# Altium schematic symbol library Job.SchLib: 2 symbols
Pins are listed as number, name and electrical type; pins without a type are passive.

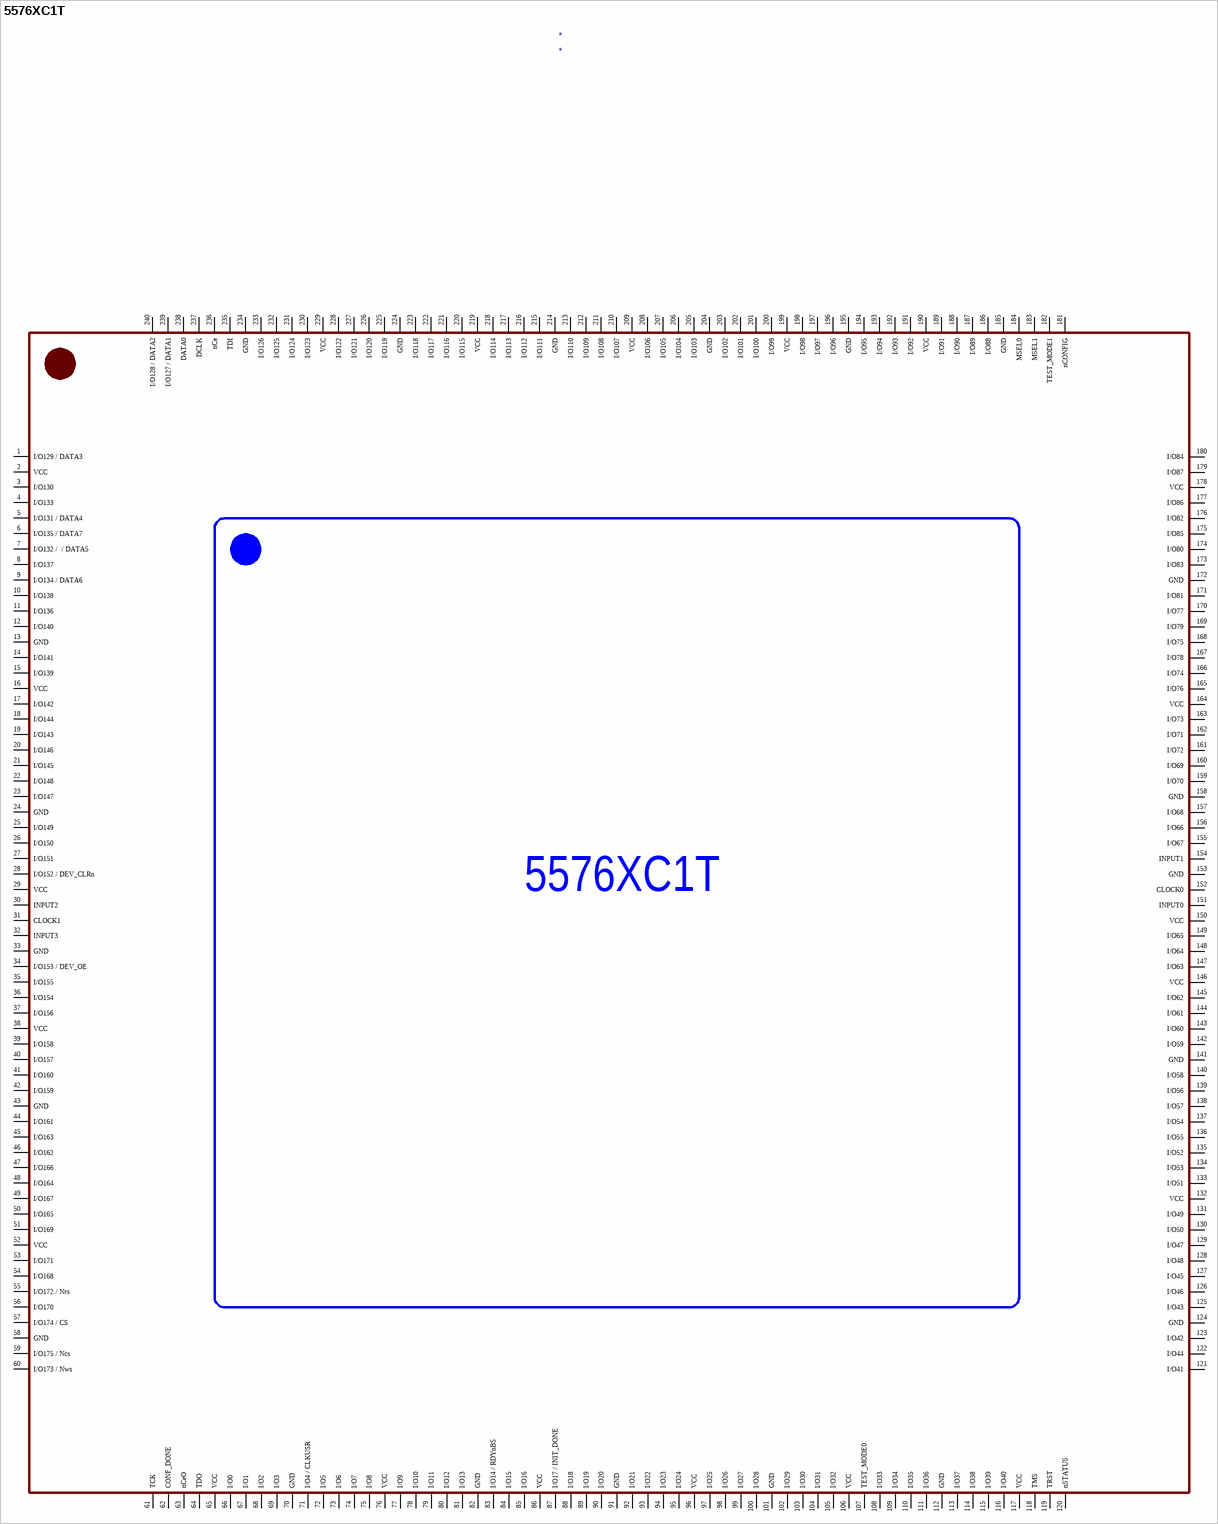
[diagram p0: symbol 5576XC1T]

## 5576XC1T
designator *
pins: 1 I/O129 / DATA3 (power), 2 VCC (power), 3 I/O130 (power), 4 I/O133 (power), 5 I/O131 / DATA4 (power), 6 I/O135 / DATA7 (power), 7 I/O132 /  / DATA5 (power), 8 I/O137 (power), 9 I/O134 / DATA6 (power), 10 I/O138 (power), 11 I/O136 (power), 12 I/O140 (power), 13 GND (power), 14 I/O141 (power), 15 I/O139 (power), 16 VCC (power), 17 I/O142 (power), 18 I/O144 (power), 19 I/O143 (power), 20 I/O146 (power), 21 I/O145 (power), 22 I/O148 (power), 23 I/O147 (power), 24 GND (power), 25 I/O149 (power), 26 I/O150 (power), 27 I/O151 (power), 28 I/O152 / DEV_CLRn (power), 29 VCC (power), 30 INPUT2 (power), 31 CLOCK1 (power), 32 INPUT3 (power), 33 GND (power), 34 I/O153 / DEV_OE (power), 35 I/O155 (power), 36 I/O154 (power), 37 I/O156 (power), 38 VCC (power), 39 I/O158 (power), 40 I/O157 (power), 41 I/O160 (power), 42 I/O159 (power), 43 GND (power), 44 I/O161 (power), 45 I/O163 (power), 46 I/O162 (power), 47 I/O166 (power), 48 I/O164 (power), 49 I/O167 (power), 50 I/O165 (power), 51 I/O169 (power), 52 VCC (power), 53 I/O171 (power), 54 I/O168 (power), 55 I/O172 / Nrs (power), 56 I/O170 (power), 57 I/O174 / CS (power), 58 GND (power), 59 I/O175 / Ncs (power), 60 I/O173 / Nws (power), 61 ТСК (power), 62 CONF_DONE (power), 63 nCeO (power), 64 TDO (power), 65 VCC (power), 66 I/O0 (power), 67 I/O1 (power), 68 I/O2 (power), 69 I/O3 (power), 70 GND (power), 71 I/O4 / CLKUSR (power), 72 I/O5 (power), 73 I/O6 (power), 74 I/O7 (power), 75 I/O8 (power), 76 VCC (power), 77 I/O9 (power), 78 I/O10 (power), 79 I/O11 (power), 80 I/O12 (power), 81 I/O13 (power), 82 GND (power), 83 I/O14 / RDYnBS (power), 84 I/O15 (power), 85 I/O16 (power), 86 VCC (power), 87 I/O17 / INIT_DONE (power), 88 I/O18 (power), 89 I/O19 (power), 90 I/O20 (power), 91 GND (power), 92 I/O21 (power), 93 I/O22 (power), 94 I/O23 (power), 95 I/O24 (power), 96 VCC (power), 97 I/O25 (power), 98 I/O26 (power), 99 I/O27 (power), 100 I/O28 (power), 101 GND (power), 102 I/O29 (power), 103 I/O30 (power), 104 I/O31 (power), 105 I/O32 (power), 106 VCC (power), 107 TEST_MODE0 (power), 108 I/O33 (power), 109 I/O34 (power), 110 I/O35 (power), 111 I/O36 (power), 112 GND (power), 113 I/O37 (power), 114 I/O38 (power), 115 I/O39 (power), 116 I/O40 (power), 117 VCC (power), 118 TMS (power), 119 TRST (power), 120 nSTATUS (power), 121 I/O41 (power), 122 I/O44 (power), 123 I/O42 (power), 124 GND (power), 125 I/O43 (power), 126 I/O46 (power), 127 I/O45 (power), 128 I/O48 (power), 129 I/O47 (power), 130 I/O50 (power), 131 I/O49 (power), 132 VCC (power), 133 I/O51 (power), 134 I/O53 (power), 135 I/O52 (power), 136 I/O55 (power), 137 I/O54 (power), 138 I/O57 (power), 139 I/O56 (power), 140 I/O58 (power), 141 GND (power), 142 I/O59 (power), 143 I/O60 (power), 144 I/O61 (power), 145 I/O62 (power), 146 VCC (power), 147 I/O63 (power), 148 I/O64 (power), 149 I/O65 (power), 150 VCC (power), 151 INPUT0 (power), 152 CLOCK0 (power), 153 GND (power), 154 INPUT1 (power), 155 I/O67 (power), 156 I/O66 (power), 157 I/O68 (power), 158 GND (power), 159 I/O70 (power), 160 I/O69 (power), 161 I/O72 (power), 162 I/O71 (power), 163 I/O73 (power), 164 VCC (power), 165 I/O76 (power), 166 I/O74 (power), 167 I/O78 (power), 168 I/O75 (power), 169 I/O79 (power), 170 I/O77 (power), 171 I/O81 (power), 172 GND (power), 173 I/O83 (power), 174 I/O80 (power), 175 I/O85 (power), 176 I/O82 (power), 177 I/O86 (power), 178 VCC (power), 179 I/O87 (power), 180 I/O84 (power), 181 nCONFIG (power), 182 TEST_MODE1 (power), 183 MSEL1 (power), 184 MSEL0 (power), 185 GND (power), 186 I/O88 (power), 187 I/O89 (power), 188 I/O90 (power), 189 I/O91 (power), 190 VCC (power), 191 I/O92 (power), 192 I/O93 (power), 193 I/O94 (power), 194 I/O95 (power), 195 GND (power), 196 I/O96 (power), 197 I/O97 (power), 198 I/O98 (power), 199 VCC (power), 200 I/O99 (power), 201 I/O100 (power), 202 I/O101 (power), 203 I/O102 (power), 204 GND (power), 205 I/O103 (power), 206 I/O104 (power), 207 I/O105 (power), 208 I/O106 (power), 209 VCC (power), 210 I/O107 (power), 211 I/O108 (power), 212 I/O109 (power), 213 I/O110 (power), 214 GND (power), 215 I/O111 (power), 216 I/O112 (power), 217 I/O113 (power), 218 I/O114 (power), 219 VCC (power), 220 I/O115 (power), 221 I/O116 (power), 222 I/O117 (power), 223 I/O118 (power), 224 GND (power), 225 I/O119 (power), 226 I/O120 (power), 227 I/O121 (power), 228 I/O122 (power), 229 VCC (power), 230 I/O123 (power), 231 I/O124 (power), 232 I/O125 (power), 233 I/O126 (power), 234 GND (power), 235 TDI (power), 236 nCe (power), 237 DCLK (power), 238 DATA0 (power), 239 I/O127 / DATA1 (power), 240 I/O128 / DATA2 (power)

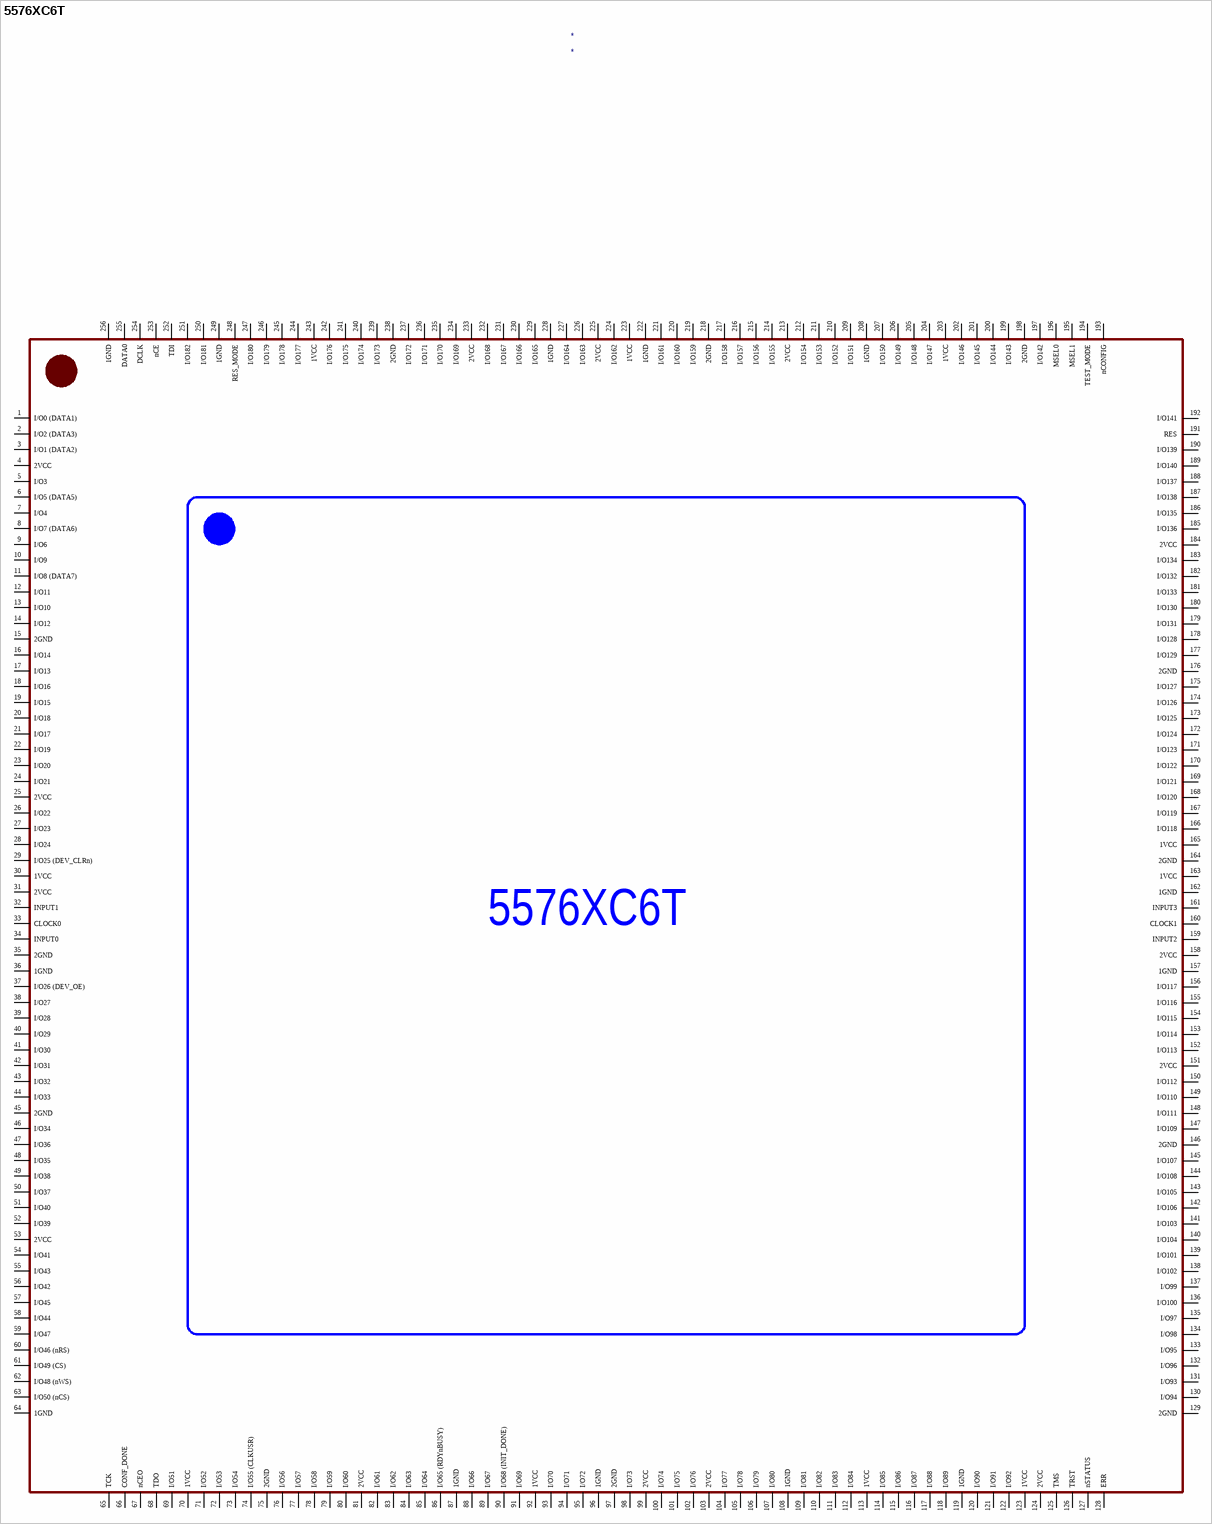
[diagram p1: symbol 5576XC6T]

## 5576XC6T
designator *
pins: 1 I/O0 (DATA1) (power), 2 I/O2 (DATA3) (power), 3 I/O1 (DATA2) (power), 4 2VCC (power), 5 I/O3 (power), 6 I/O5 (DATA5) (power), 7 I/O4 (power), 8 I/O7 (DATA6) (power), 9 I/O6 (power), 10 I/O9 (power), 11 I/O8 (DATA7) (power), 12 I/O11 (power), 13 I/O10 (power), 14 I/O12 (power), 15 2GND (power), 16 I/O14 (power), 17 I/O13 (power), 18 I/O16 (power), 19 I/O15 (power), 20 I/O18 (power), 21 I/O17 (power), 22 I/O19 (power), 23 I/O20 (power), 24 I/O21 (power), 25 2VCC (power), 26 I/O22 (power), 27 I/O23 (power), 28 I/O24 (power), 29 I/O25 (DEV_CLRn) (power), 30 1VCC (power), 31 2VCC (power), 32 INPUT1 (power), 33 CLOCK0 (power), 34 INPUT0 (power), 35 2GND (power), 36 1GND (power), 37 I/O26 (DEV_OE) (power), 38 I/O27 (power), 39 I/O28 (power), 40 I/O29 (power), 41 I/O30 (power), 42 I/O31 (power), 43 I/O32 (power), 44 I/O33 (power), 45 2GND (power), 46 I/O34 (power), 47 I/O36 (power), 48 I/O35 (power), 49 I/O38 (power), 50 I/O37 (power), 51 I/O40 (power), 52 I/O39 (power), 53 2VCC (power), 54 I/O41 (power), 55 I/O43 (power), 56 I/O42 (power), 57 I/O45 (power), 58 I/O44 (power), 59 I/O47 (power), 60 I/O46 (nRS) (power), 61 I/O49 (CS) (power), 62 I/O48 (nWS) (power), 63 I/O50 (nCS) (power), 64 1GND (power), 65 TCK (power), 66 CONF_DONE (power), 67 nCEO (power), 68 TDO (power), 69 I/O51 (power), 70 1VCC (power), 71 I/O52 (power), 72 I/O53 (power), 73 I/O54 (power), 74 I/O55 (CLKUSR) (power), 75 2GND (power), 76 I/O56 (power), 77 I/O57 (power), 78 I/O58 (power), 79 I/O59 (power), 80 I/O60 (power), 81 2VCC (power), 82 I/O61 (power), 83 I/O62 (power), 84 I/O63 (power), 85 I/O64 (power), 86 I/O65 (RDYnBUSY) (power), 87 1GND (power), 88 I/O66 (power), 89 I/O67 (power), 90 I/O68 (INIT_DONE) (power), 91 I/O69 (power), 92 1VCC (power), 93 I/O70 (power), 94 I/O71 (power), 95 I/O72 (power), 96 1GND (power), 97 2GND (power), 98 I/O73 (power), 99 2VCC (power), 100 I/O74 (power), 101 I/O75 (power), 102 I/O76 (power), 103 2VCC (power), 104 I/O77 (power), 105 I/O78 (power), 106 I/O79 (power), 107 I/O80 (power), 108 1GND (power), 109 I/O81 (power), 110 I/O82 (power), 111 I/O83 (power), 112 I/O84 (power), 113 1VCC (power), 114 I/O85 (power), 115 I/O86 (power), 116 I/O87 (power), 117 I/O88 (power), 118 I/O89 (power), 119 1GND (power), 120 I/O90 (power), 121 I/O91 (power), 122 I/O92 (power), 123 1VCC (power), 124 2VCC (power), 125 TMS (power), 126 TRST (power), 127 nSTATUS (power), 128 ERR (power), 129 2GND (power), 130 I/O94 (power), 131 I/O93 (power), 132 I/O96 (power), 133 I/O95 (power), 134 I/O98 (power), 135 I/O97 (power), 136 I/O100 (power), 137 I/O99 (power), 138 I/O102 (power), 139 I/O101 (power), 140 I/O104 (power), 141 I/O103 (power), 142 I/O106 (power), 143 I/O105 (power), 144 I/O108 (power), 145 I/O107 (power), 146 2GND (power), 147 I/O109 (power), 148 I/O111 (power), 149 I/O110 (power), 150 I/O112 (power), 151 2VCC (power), 152 I/O113 (power), 153 I/O114 (power), 154 I/O115 (power), 155 I/O116 (power), 156 I/O117 (power), 157 1GND (power), 158 2VCC (power), 159 INPUT2 (power), 160 CLOCK1 (power), 161 INPUT3 (power), 162 1GND (power), 163 1VCC (power), 164 2GND (power), 165 1VCC (power), 166 I/O118 (power), 167 I/O119 (power), 168 I/O120 (power), 169 I/O121 (power), 170 I/O122 (power), 171 I/O123 (power), 172 I/O124 (power), 173 I/O125 (power), 174 I/O126 (power), 175 I/O127 (power), 176 2GND (power), 177 I/O129 (power), 178 I/O128 (power), 179 I/O131 (power), 180 I/O130 (power), 181 I/O133 (power), 182 I/O132 (power), 183 I/O134 (power), 184 2VCC (power), 185 I/O136 (power), 186 I/O135 (power), 187 I/O138 (power), 188 I/O137 (power), 189 I/O140 (power), 190 I/O139 (power), 191 RES (power), 192 I/O141 (power), 193 nCONFIG (power), 194 TEST_MODE (power), 195 MSEL1 (power), 196 MSEL0 (power), 197 I/O142 (power), 198 2GND (power), 199 I/O143 (power), 200 I/O144 (power), 201 I/O145 (power), 202 I/O146 (power), 203 1VCC (power), 204 I/O147 (power), 205 I/O148 (power), 206 I/O149 (power), 207 I/O150 (power), 208 1GND (power), 209 I/O151 (power), 210 I/O152 (power), 211 I/O153 (power), 212 I/O154 (power), 213 2VCC (power), 214 I/O155 (power), 215 I/O156 (power), 216 I/O157 (power), 217 I/O158 (power), 218 2GND (power), 219 I/O159 (power), 220 I/O160 (power), 221 I/O161 (power), 222 1GND (power), 223 1VCC (power), 224 I/O162 (power), 225 2VCC (power), 226 I/O163 (power), 227 I/O164 (power), 228 1GND (power), 229 I/O165 (power), 230 I/O166 (power), 231 I/O167 (power), 232 I/O168 (power), 233 2VCC (power), 234 I/O169 (power), 235 I/O170 (power), 236 I/O171 (power), 237 I/O172 (power), 238 2GND (power), 239 I/O173 (power), 240 I/O174 (power), 241 I/O175 (power), 242 I/O176 (power), 243 1VCC (power), 244 I/O177 (power), 245 I/O178 (power), 246 I/O179 (power), 247 I/O180 (power), 248 RES_MODE (power), 249 1GND (power), 250 I/O181 (power), 251 I/O182 (power), 252 TDI (power), 253 nCE (power), 254 DCLK (power), 255 DATA0 (power), 256 1GND (power)